# Altium integrated library Diodes - TVS.IntLib: 5379 symbols (part 83 of 122)
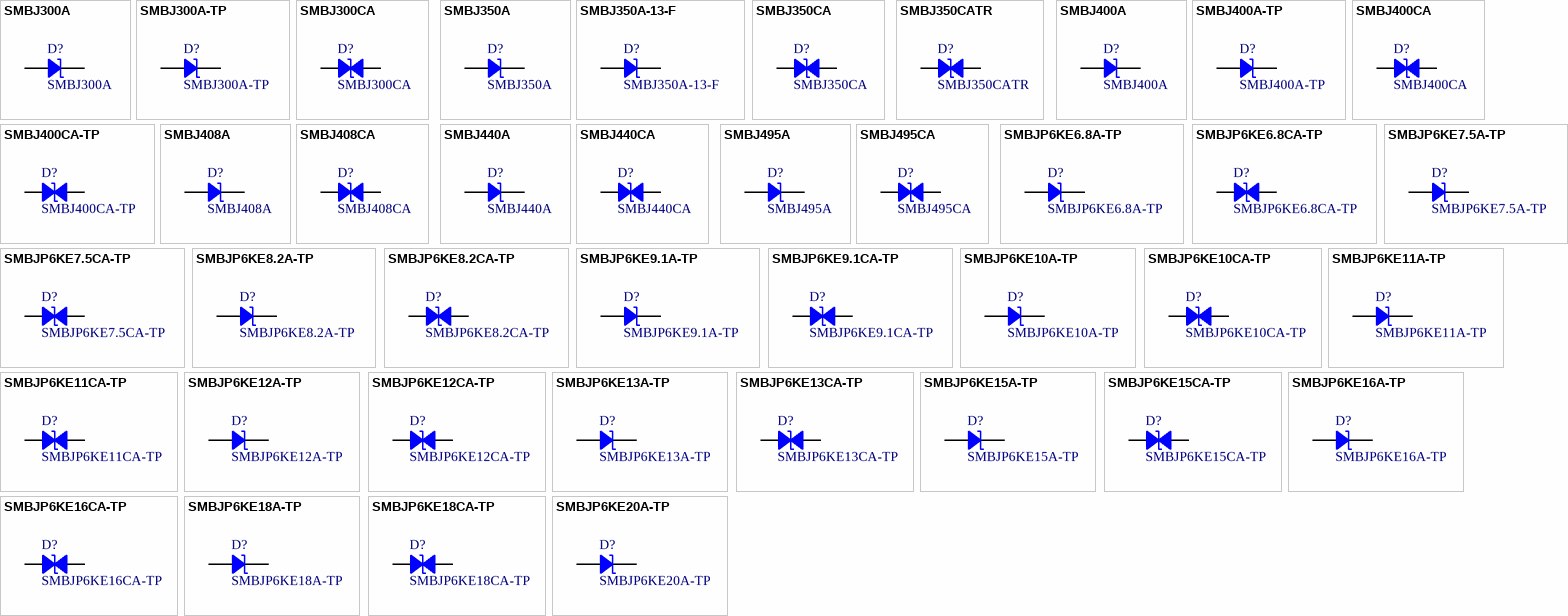
[diagram p216: symbols SMBJ300A to SMBJP6KE20A-TP]

## SMBJP6KE18CA-TP
designator D?
TVS DIODE 15.3V 25.5V DO214AA; Manufacturer: Micro Commercial Co; Bidirectional Channels: 1; Current - Peak Pulse (10/1000µs): 24.2A; Power Line Protection: No; Power - Peak Pulse: 600W; Type: Zener; Voltage - Breakdown (Min): 17.1V; Part Number: SMBJP6KE18CA-TP; Applications: General Purpose; ComponentLink1Description: Datasheet; ComponentLink1URL: https://www.mccsemi.com/pdf/Products/SMBJP6KE6.8(C)A-SMBJP6KE550(C)A(DO-214AA).pdf; ComponentLink2Description: DigiKey Link; ComponentLink2URL: http://digikey.com/product-detail/en/micro-commercial-co/SMBJP6KE18CA-TP/SMBJP6KE18CA-TPMSCT-ND/2345725; LastUpdated: 9/2/2020 1:28:17 AM; Lifecycle Status: Active; Minimum Order: 1; Mounting Type: Surface Mount; Operating Temperature: -55°C ~ 175°C (TJ); Package / Case: DO-214AA, SMB; Packaging: TapeAndReel; PartId: 9028; Part Status: Active; Price: 0.11; Series: SMBJ; Supplier 1: DigiKey; Supplier Part Number 1: SMBJP6KE18CA-TPMSCT-ND; Supplier Device Package: DO-214AA (SMBJ); Voltage - Clamping (Max) @ Ipp: 25.5V; Voltage - Reverse Standoff (Typ): 15.3V
footprint DO214AA SMB
pins: 1, 2

## SMBJP6KE20A-TP
designator D?
TVS DIODE 17.1V 27.7V DO214AA; Manufacturer: Micro Commercial Co; Current - Peak Pulse (10/1000µs): 22A; Power Line Protection: No; Power - Peak Pulse: 600W; Type: Zener; Unidirectional Channels: 1; Voltage - Breakdown (Min): 19V; Part Number: SMBJP6KE20A-TP; Applications: General Purpose; ComponentLink1Description: Datasheet; ComponentLink1URL: https://www.mccsemi.com/pdf/Products/SMBJP6KE6.8(C)A-SMBJP6KE550(C)A(DO-214AA).pdf; ComponentLink2Description: DigiKey Link; ComponentLink2URL: http://digikey.com/product-detail/en/micro-commercial-co/SMBJP6KE20A-TP/SMBJP6KE20A-TPMSDKR-ND/2345889; LastUpdated: 9/2/2020 1:19:50 AM; Lifecycle Status: Active; Minimum Order: 1; Mounting Type: Surface Mount; Operating Temperature: -55°C ~ 175°C (TJ); Package / Case: DO-214AA, SMB; PartId: 11270; Part Status: Active; Price: 0; Series: SMBJ; Supplier 1: DigiKey; Supplier Part Number 1: SMBJP6KE20A-TPMSDKR-ND; Supplier Device Package: DO-214AA (SMBJ); Voltage - Clamping (Max) @ Ipp: 27.7V; Voltage - Reverse Standoff (Typ): 17.1V
footprint DO214AA SMB
pins: 1, 2

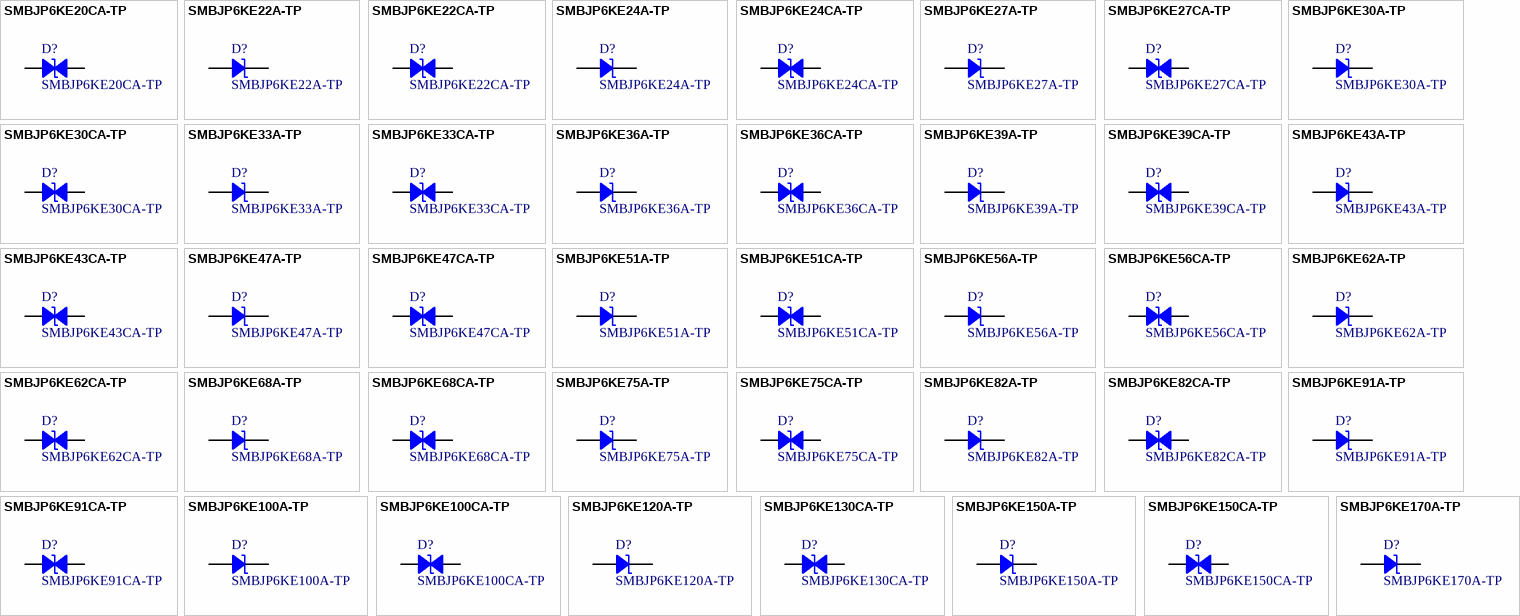
[diagram p91: symbols SMBJP6KE20CA-TP to SMBJP6KE170A-TP]

## SMBJP6KE20CA-TP
designator D?
TVS DIODE 17.1V 27.7V DO214AA; Manufacturer: Micro Commercial Co; Bidirectional Channels: 1; Current - Peak Pulse (10/1000µs): 22A; Power Line Protection: No; Power - Peak Pulse: 600W; Type: Zener; Voltage - Breakdown (Min): 19V; Part Number: SMBJP6KE20CA-TP; Applications: General Purpose; ComponentLink1Description: Datasheet; ComponentLink1URL: https://www.mccsemi.com/pdf/Products/SMBJP6KE6.8(C)A-SMBJP6KE550(C)A(DO-214AA).pdf; ComponentLink2Description: DigiKey Link; ComponentLink2URL: http://digikey.com/product-detail/en/micro-commercial-co/SMBJP6KE20CA-TP/SMBJP6KE20CA-TPMSCT-ND/2345729; LastUpdated: 9/2/2020 1:28:19 AM; Lifecycle Status: Active; Minimum Order: 1; Mounting Type: Surface Mount; Operating Temperature: -55°C ~ 175°C (TJ); Package / Case: DO-214AA, SMB; Packaging: TapeAndReel; PartId: 9335; Part Status: Active; Price: 0.11; Series: SMBJ; Supplier 1: DigiKey; Supplier Part Number 1: SMBJP6KE20CA-TPMSCT-ND; Supplier Device Package: DO-214AA (SMBJ); Voltage - Clamping (Max) @ Ipp: 27.7V; Voltage - Reverse Standoff (Typ): 17.1V
footprint DO214AA SMB
pins: 1, 2

## SMBJP6KE22A-TP
designator D?
TVS DIODE 18.8V 30.6V DO214AA; Manufacturer: Micro Commercial Co; Current - Peak Pulse (10/1000µs): 19.9A; Power Line Protection: No; Power - Peak Pulse: 600W; Type: Zener; Unidirectional Channels: 1; Voltage - Breakdown (Min): 20.9V; Part Number: SMBJP6KE22A-TP; Applications: General Purpose; ComponentLink1Description: Datasheet; ComponentLink1URL: https://www.mccsemi.com/pdf/Products/SMBJP6KE6.8(C)A-SMBJP6KE550(C)A(DO-214AA).pdf; ComponentLink2Description: DigiKey Link; ComponentLink2URL: http://digikey.com/product-detail/en/micro-commercial-co/SMBJP6KE22A-TP/SMBJP6KE22A-TPMSCT-ND/2345732; LastUpdated: 9/2/2020 1:19:44 AM; Lifecycle Status: Active; Minimum Order: 1; Mounting Type: Surface Mount; Operating Temperature: -55°C ~ 175°C (TJ); Package / Case: DO-214AA, SMB; Packaging: TapeAndReel; PartId: 10653; Part Status: Active; Price: 0.11; Series: SMBJ; Supplier 1: DigiKey; Supplier Part Number 1: SMBJP6KE22A-TPMSCT-ND; Supplier Device Package: DO-214AA (SMBJ); Voltage - Clamping (Max) @ Ipp: 30.6V; Voltage - Reverse Standoff (Typ): 18.8V
footprint DO214AA SMB
pins: 1, 2

## SMBJP6KE22CA-TP
designator D?
TVS DIODE 18.8V 30.6V DO214AA; Manufacturer: Micro Commercial Co; Bidirectional Channels: 1; Current - Peak Pulse (10/1000µs): 19.9A; Power Line Protection: No; Power - Peak Pulse: 600W; Type: Zener; Voltage - Breakdown (Min): 20.9V; Part Number: SMBJP6KE22CA-TP; Applications: General Purpose; ComponentLink1Description: Datasheet; ComponentLink1URL: https://www.mccsemi.com/pdf/Products/SMBJP6KE6.8(C)A-SMBJP6KE550(C)A(DO-214AA).pdf; ComponentLink2Description: DigiKey Link; ComponentLink2URL: http://digikey.com/product-detail/en/micro-commercial-co/SMBJP6KE22CA-TP/SMBJP6KE22CA-TPMSCT-ND/2345733; LastUpdated: 9/2/2020 1:28:16 AM; Lifecycle Status: Active; Minimum Order: 1; Mounting Type: Surface Mount; Operating Temperature: -55°C ~ 175°C (TJ); Package / Case: DO-214AA, SMB; Packaging: TapeAndReel; PartId: 8970; Part Status: Active; Price: 0.11; Series: SMBJ; Supplier 1: DigiKey; Supplier Part Number 1: SMBJP6KE22CA-TPMSCT-ND; Supplier Device Package: DO-214AA (SMBJ); Voltage - Clamping (Max) @ Ipp: 30.6V; Voltage - Reverse Standoff (Typ): 18.8V
footprint DO214AA SMB
pins: 1, 2

## SMBJP6KE24A-TP
designator D?
TVS DIODE 20.5V 33.2V DO214AA; Manufacturer: Micro Commercial Co; Current - Peak Pulse (10/1000µs): 18.4A; Power Line Protection: No; Power - Peak Pulse: 600W; Type: Zener; Unidirectional Channels: 1; Voltage - Breakdown (Min): 22.8V; Part Number: SMBJP6KE24A-TP; Applications: General Purpose; ComponentLink1Description: Datasheet; ComponentLink1URL: https://www.mccsemi.com/pdf/Products/SMBJP6KE6.8(C)A-SMBJP6KE550(C)A(DO-214AA).pdf; ComponentLink2Description: DigiKey Link; ComponentLink2URL: http://digikey.com/product-detail/en/micro-commercial-co/SMBJP6KE24A-TP/SMBJP6KE24A-TPMSCT-ND/2345734; LastUpdated: 9/2/2020 1:19:44 AM; Lifecycle Status: Active; Minimum Order: 1; Mounting Type: Surface Mount; Operating Temperature: -55°C ~ 175°C (TJ); Package / Case: DO-214AA, SMB; Packaging: TapeAndReel; PartId: 10652; Part Status: Active; Price: 0.11; Series: SMBJ; Supplier 1: DigiKey; Supplier Part Number 1: SMBJP6KE24A-TPMSCT-ND; Supplier Device Package: DO-214AA (SMBJ); Voltage - Clamping (Max) @ Ipp: 33.2V; Voltage - Reverse Standoff (Typ): 20.5V
footprint DO214AA SMB
pins: 1, 2

## SMBJP6KE24CA-TP
designator D?
TVS DIODE 20.5V 33.2V DO214AA; Manufacturer: Micro Commercial Co; Bidirectional Channels: 1; Current - Peak Pulse (10/1000µs): 18.4A; Power Line Protection: No; Power - Peak Pulse: 600W; Type: Zener; Voltage - Breakdown (Min): 22.8V; Part Number: SMBJP6KE24CA-TP; Applications: General Purpose; ComponentLink1Description: Datasheet; ComponentLink1URL: https://www.mccsemi.com/pdf/Products/SMBJP6KE6.8(C)A-SMBJP6KE550(C)A(DO-214AA).pdf; ComponentLink2Description: DigiKey Link; ComponentLink2URL: http://digikey.com/product-detail/en/micro-commercial-co/SMBJP6KE24CA-TP/SMBJP6KE24CA-TPMSCT-ND/2345735; LastUpdated: 9/2/2020 1:28:19 AM; Lifecycle Status: Active; Minimum Order: 1; Mounting Type: Surface Mount; Operating Temperature: -55°C ~ 175°C (TJ); Package / Case: DO-214AA, SMB; Packaging: TapeAndReel; PartId: 9334; Part Status: Active; Price: 0.11; Series: SMBJ; Supplier 1: DigiKey; Supplier Part Number 1: SMBJP6KE24CA-TPMSCT-ND; Supplier Device Package: DO-214AA (SMBJ); Voltage - Clamping (Max) @ Ipp: 33.2V; Voltage - Reverse Standoff (Typ): 20.5V
footprint DO214AA SMB
pins: 1, 2

## SMBJP6KE27A-TP
designator D?
TVS DIODE 23.1V 37.5V DO214AA; Manufacturer: Micro Commercial Co; Current - Peak Pulse (10/1000µs): 16.3A; Power Line Protection: No; Power - Peak Pulse: 600W; Type: Zener; Unidirectional Channels: 1; Voltage - Breakdown (Min): 25.7V; Part Number: SMBJP6KE27A-TP; Applications: General Purpose; ComponentLink1Description: Datasheet; ComponentLink1URL: https://www.mccsemi.com/pdf/Products/SMBJP6KE6.8(C)A-SMBJP6KE550(C)A(DO-214AA).pdf; ComponentLink2Description: DigiKey Link; ComponentLink2URL: http://digikey.com/product-detail/en/micro-commercial-co/SMBJP6KE27A-TP/SMBJP6KE27A-TPMSCT-ND/2345737; LastUpdated: 9/2/2020 1:19:51 AM; Lifecycle Status: Active; Minimum Order: 1; Mounting Type: Surface Mount; Operating Temperature: -55°C ~ 175°C (TJ); Package / Case: DO-214AA, SMB; Packaging: TapeAndReel; PartId: 11333; Part Status: Active; Price: 0.11; Series: SMBJ; Supplier 1: DigiKey; Supplier Part Number 1: SMBJP6KE27A-TPMSCT-ND; Supplier Device Package: DO-214AA (SMBJ); Voltage - Clamping (Max) @ Ipp: 37.5V; Voltage - Reverse Standoff (Typ): 23.1V
footprint DO214AA SMB
pins: 1, 2

## SMBJP6KE27CA-TP
designator D?
TVS DIODE 23.1V 37.5V DO214AA; Manufacturer: Micro Commercial Co; Bidirectional Channels: 1; Current - Peak Pulse (10/1000µs): 16.3A; Power Line Protection: No; Power - Peak Pulse: 600W; Type: Zener; Voltage - Breakdown (Min): 25.7V; Part Number: SMBJP6KE27CA-TP; Applications: General Purpose; ComponentLink1Description: Datasheet; ComponentLink1URL: https://www.mccsemi.com/pdf/Products/SMBJP6KE6.8(C)A-SMBJP6KE550(C)A(DO-214AA).pdf; ComponentLink2Description: DigiKey Link; ComponentLink2URL: http://digikey.com/product-detail/en/micro-commercial-co/SMBJP6KE27CA-TP/SMBJP6KE27CA-TPMSCT-ND/2345738; LastUpdated: 9/2/2020 1:28:16 AM; Lifecycle Status: Active; Minimum Order: 1; Mounting Type: Surface Mount; Operating Temperature: -55°C ~ 175°C (TJ); Package / Case: DO-214AA, SMB; Packaging: TapeAndReel; PartId: 8977; Part Status: Active; Price: 0.11; Series: SMBJ; Supplier 1: DigiKey; Supplier Part Number 1: SMBJP6KE27CA-TPMSCT-ND; Supplier Device Package: DO-214AA (SMBJ); Voltage - Clamping (Max) @ Ipp: 37.5V; Voltage - Reverse Standoff (Typ): 23.1V
footprint DO214AA SMB
pins: 1, 2

## SMBJP6KE30A-TP
designator D?
TVS DIODE 25.6V 41.4V DO214AA; Manufacturer: Micro Commercial Co; Current - Peak Pulse (10/1000µs): 14.7A; Power Line Protection: No; Power - Peak Pulse: 600W; Type: Zener; Unidirectional Channels: 1; Voltage - Breakdown (Min): 28.5V; Part Number: SMBJP6KE30A-TP; Applications: General Purpose; ComponentLink1Description: Datasheet; ComponentLink1URL: https://www.mccsemi.com/pdf/Products/SMBJP6KE6.8(C)A-SMBJP6KE550(C)A(DO-214AA).pdf; ComponentLink2Description: DigiKey Link; ComponentLink2URL: http://digikey.com/product-detail/en/micro-commercial-co/SMBJP6KE30A-TP/SMBJP6KE30A-TPMSCT-ND/2345740; LastUpdated: 9/2/2020 1:19:43 AM; Lifecycle Status: Active; Minimum Order: 1; Mounting Type: Surface Mount; Operating Temperature: -55°C ~ 175°C (TJ); Package / Case: DO-214AA, SMB; Packaging: TapeAndReel; PartId: 10547; Part Status: Active; Price: 0.11; Series: SMBJ; Supplier 1: DigiKey; Supplier Part Number 1: SMBJP6KE30A-TPMSCT-ND; Supplier Device Package: DO-214AA (SMBJ); Voltage - Clamping (Max) @ Ipp: 41.4V; Voltage - Reverse Standoff (Typ): 25.6V
footprint DO214AA SMB
pins: 1, 2

## SMBJP6KE30CA-TP
designator D?
TVS DIODE 25.6V 41.4V DO214AA; Manufacturer: Micro Commercial Co; Bidirectional Channels: 1; Current - Peak Pulse (10/1000µs): 14.7A; Power Line Protection: No; Power - Peak Pulse: 600W; Type: Zener; Voltage - Breakdown (Min): 28.5V; Part Number: SMBJP6KE30CA-TP; Applications: General Purpose; ComponentLink1Description: Datasheet; ComponentLink1URL: https://www.mccsemi.com/pdf/Products/SMBJP6KE6.8(C)A-SMBJP6KE550(C)A(DO-214AA).pdf; ComponentLink2Description: DigiKey Link; ComponentLink2URL: http://digikey.com/product-detail/en/micro-commercial-co/SMBJP6KE30CA-TP/SMBJP6KE30CA-TPMSCT-ND/2345741; LastUpdated: 9/2/2020 1:28:16 AM; Lifecycle Status: Active; Minimum Order: 1; Mounting Type: Surface Mount; Operating Temperature: -55°C ~ 175°C (TJ); Package / Case: DO-214AA, SMB; Packaging: TapeAndReel; PartId: 8974; Part Status: Active; Price: 0.11; Series: SMBJ; Supplier 1: DigiKey; Supplier Part Number 1: SMBJP6KE30CA-TPMSCT-ND; Supplier Device Package: DO-214AA (SMBJ); Voltage - Clamping (Max) @ Ipp: 41.4V; Voltage - Reverse Standoff (Typ): 25.6V
footprint DO214AA SMB
pins: 1, 2

## SMBJP6KE33A-TP
designator D?
TVS DIODE 28.2V 45.7V DO214AA; Manufacturer: Micro Commercial Co; Current - Peak Pulse (10/1000µs): 13.3A; Power Line Protection: No; Power - Peak Pulse: 600W; Type: Zener; Unidirectional Channels: 1; Voltage - Breakdown (Min): 31.4V; Part Number: SMBJP6KE33A-TP; Applications: General Purpose; ComponentLink1Description: Datasheet; ComponentLink1URL: https://www.mccsemi.com/pdf/Products/SMBJP6KE6.8(C)A-SMBJP6KE550(C)A(DO-214AA).pdf; ComponentLink2Description: DigiKey Link; ComponentLink2URL: http://digikey.com/product-detail/en/micro-commercial-co/SMBJP6KE33A-TP/SMBJP6KE33A-TPMSCT-ND/2345742; LastUpdated: 9/2/2020 1:19:43 AM; Lifecycle Status: Active; Minimum Order: 1; Mounting Type: Surface Mount; Operating Temperature: -55°C ~ 175°C (TJ); Package / Case: DO-214AA, SMB; Packaging: TapeAndReel; PartId: 10546; Part Status: Active; Price: 0.11; Series: SMBJ; Supplier 1: DigiKey; Supplier Part Number 1: SMBJP6KE33A-TPMSCT-ND; Supplier Device Package: DO-214AA (SMBJ); Voltage - Clamping (Max) @ Ipp: 45.7V; Voltage - Reverse Standoff (Typ): 28.2V
footprint DO214AA SMB
pins: 1, 2

## SMBJP6KE33CA-TP
designator D?
TVS DIODE 28.2V 45.7V DO214AA; Manufacturer: Micro Commercial Co; Bidirectional Channels: 1; Current - Peak Pulse (10/1000µs): 13.3A; Power Line Protection: No; Power - Peak Pulse: 600W; Type: Zener; Voltage - Breakdown (Min): 31.4V; Part Number: SMBJP6KE33CA-TP; Applications: General Purpose; ComponentLink1Description: Datasheet; ComponentLink1URL: https://www.mccsemi.com/pdf/Products/SMBJP6KE6.8(C)A-SMBJP6KE550(C)A(DO-214AA).pdf; ComponentLink2Description: DigiKey Link; ComponentLink2URL: http://digikey.com/product-detail/en/micro-commercial-co/SMBJP6KE33CA-TP/SMBJP6KE33CA-TPMSCT-ND/2345743; LastUpdated: 9/2/2020 1:28:15 AM; Lifecycle Status: Active; Minimum Order: 1; Mounting Type: Surface Mount; Operating Temperature: -55°C ~ 175°C (TJ); Package / Case: DO-214AA, SMB; Packaging: TapeAndReel; PartId: 8875; Part Status: Active; Price: 0.11; Series: SMBJ; Supplier 1: DigiKey; Supplier Part Number 1: SMBJP6KE33CA-TPMSCT-ND; Supplier Device Package: DO-214AA (SMBJ); Voltage - Clamping (Max) @ Ipp: 45.7V; Voltage - Reverse Standoff (Typ): 28.2V
footprint DO214AA SMB
pins: 1, 2

## SMBJP6KE36A-TP
designator D?
TVS DIODE 30.8V 49.9V DO214AA; Manufacturer: Micro Commercial Co; Current - Peak Pulse (10/1000µs): 12.2A; Power Line Protection: No; Power - Peak Pulse: 600W; Type: Zener; Unidirectional Channels: 1; Voltage - Breakdown (Min): 34.2V; Part Number: SMBJP6KE36A-TP; Applications: General Purpose; ComponentLink1Description: Datasheet; ComponentLink1URL: https://www.mccsemi.com/pdf/Products/SMBJP6KE6.8(C)A-SMBJP6KE550(C)A(DO-214AA).pdf; ComponentLink2Description: DigiKey Link; ComponentLink2URL: http://digikey.com/product-detail/en/micro-commercial-co/SMBJP6KE36A-TP/SMBJP6KE36A-TPMSCT-ND/2345746; LastUpdated: 9/2/2020 1:19:51 AM; Lifecycle Status: Active; Minimum Order: 1; Mounting Type: Surface Mount; Operating Temperature: -55°C ~ 175°C (TJ); Package / Case: DO-214AA, SMB; Packaging: TapeAndReel; PartId: 11332; Part Status: Active; Price: 0.11; Series: SMBJ; Supplier 1: DigiKey; Supplier Part Number 1: SMBJP6KE36A-TPMSCT-ND; Supplier Device Package: DO-214AA (SMBJ); Voltage - Clamping (Max) @ Ipp: 49.9V; Voltage - Reverse Standoff (Typ): 30.8V
footprint DO214AA SMB
pins: 1, 2

## SMBJP6KE36CA-TP
designator D?
TVS DIODE 30.8V 49.9V DO214AA; Manufacturer: Micro Commercial Co; Bidirectional Channels: 1; Current - Peak Pulse (10/1000µs): 12.2A; Power Line Protection: No; Power - Peak Pulse: 600W; Type: Zener; Voltage - Breakdown (Min): 34.2V; Part Number: SMBJP6KE36CA-TP; Applications: General Purpose; ComponentLink1Description: Datasheet; ComponentLink1URL: https://www.mccsemi.com/pdf/Products/SMBJP6KE6.8(C)A-SMBJP6KE550(C)A(DO-214AA).pdf; ComponentLink2Description: DigiKey Link; ComponentLink2URL: http://digikey.com/product-detail/en/micro-commercial-co/SMBJP6KE36CA-TP/SMBJP6KE36CA-TPMSCT-ND/2345747; LastUpdated: 9/2/2020 1:28:16 AM; Lifecycle Status: Active; Minimum Order: 1; Mounting Type: Surface Mount; Operating Temperature: -55°C ~ 175°C (TJ); Package / Case: DO-214AA, SMB; Packaging: TapeAndReel; PartId: 8976; Part Status: Active; Price: 0.11; Series: SMBJ; Supplier 1: DigiKey; Supplier Part Number 1: SMBJP6KE36CA-TPMSCT-ND; Supplier Device Package: DO-214AA (SMBJ); Voltage - Clamping (Max) @ Ipp: 49.9V; Voltage - Reverse Standoff (Typ): 30.8V
footprint DO214AA SMB
pins: 1, 2

## SMBJP6KE39A-TP
designator D?
TVS DIODE 33.3V 53.9V DO214AA; Manufacturer: Micro Commercial Co; Current - Peak Pulse (10/1000µs): 11.3A; Power Line Protection: No; Power - Peak Pulse: 600W; Type: Zener; Unidirectional Channels: 1; Voltage - Breakdown (Min): 37.1V; Part Number: SMBJP6KE39A-TP; Applications: General Purpose; ComponentLink1Description: Datasheet; ComponentLink1URL: https://www.mccsemi.com/pdf/Products/SMBJP6KE6.8(C)A-SMBJP6KE550(C)A(DO-214AA).pdf; ComponentLink2Description: DigiKey Link; ComponentLink2URL: http://digikey.com/product-detail/en/micro-commercial-co/SMBJP6KE39A-TP/SMBJP6KE39A-TPMSCT-ND/2345748; LastUpdated: 9/2/2020 1:19:48 AM; Lifecycle Status: Active; Minimum Order: 1; Mounting Type: Surface Mount; Operating Temperature: -55°C ~ 175°C (TJ); Package / Case: DO-214AA, SMB; Packaging: TapeAndReel; PartId: 11013; Part Status: Active; Price: 0.11; Series: SMBJ; Supplier 1: DigiKey; Supplier Part Number 1: SMBJP6KE39A-TPMSCT-ND; Supplier Device Package: DO-214AA (SMBJ); Voltage - Clamping (Max) @ Ipp: 53.9V; Voltage - Reverse Standoff (Typ): 33.3V
footprint DO214AA SMB
pins: 1, 2

## SMBJP6KE39CA-TP
designator D?
TVS DIODE 33.3V 53.9V DO214AA; Manufacturer: Micro Commercial Co; Bidirectional Channels: 1; Current - Peak Pulse (10/1000µs): 11.3A; Power Line Protection: No; Power - Peak Pulse: 600W; Type: Zener; Voltage - Breakdown (Min): 37.1V; Part Number: SMBJP6KE39CA-TP; Applications: General Purpose; ComponentLink1Description: Datasheet; ComponentLink1URL: https://www.mccsemi.com/pdf/Products/SMBJP6KE6.8(C)A-SMBJP6KE550(C)A(DO-214AA).pdf; ComponentLink2Description: DigiKey Link; ComponentLink2URL: http://digikey.com/product-detail/en/micro-commercial-co/SMBJP6KE39CA-TP/SMBJP6KE39CA-TPMSCT-ND/2345749; LastUpdated: 9/2/2020 1:28:15 AM; Lifecycle Status: Active; Minimum Order: 1; Mounting Type: Surface Mount; Operating Temperature: -55°C ~ 175°C (TJ); Package / Case: DO-214AA, SMB; Packaging: TapeAndReel; PartId: 8859; Part Status: Active; Price: 0.11; Series: SMBJ; Supplier 1: DigiKey; Supplier Part Number 1: SMBJP6KE39CA-TPMSCT-ND; Supplier Device Package: DO-214AA (SMBJ); Voltage - Clamping (Max) @ Ipp: 53.9V; Voltage - Reverse Standoff (Typ): 33.3V
footprint DO214AA SMB
pins: 1, 2

## SMBJP6KE43A-TP
designator D?
TVS DIODE 36.8V 59.3V DO214AA; Manufacturer: Micro Commercial Co; Current - Peak Pulse (10/1000µs): 10.3A; Power Line Protection: No; Power - Peak Pulse: 600W; Type: Zener; Unidirectional Channels: 1; Voltage - Breakdown (Min): 40.9V; Part Number: SMBJP6KE43A-TP; Applications: General Purpose; ComponentLink1Description: Datasheet; ComponentLink1URL: https://www.mccsemi.com/pdf/Products/SMBJP6KE6.8(C)A-SMBJP6KE550(C)A(DO-214AA).pdf; ComponentLink2Description: DigiKey Link; ComponentLink2URL: http://digikey.com/product-detail/en/micro-commercial-co/SMBJP6KE43A-TP/SMBJP6KE43A-TPMSCT-ND/2345752; LastUpdated: 9/2/2020 1:19:44 AM; Lifecycle Status: Active; Minimum Order: 1; Mounting Type: Surface Mount; Operating Temperature: -55°C ~ 175°C (TJ); Package / Case: DO-214AA, SMB; Packaging: TapeAndReel; PartId: 10687; Part Status: Active; Price: 0.11; Series: SMBJ; Supplier 1: DigiKey; Supplier Part Number 1: SMBJP6KE43A-TPMSCT-ND; Supplier Device Package: DO-214AA (SMBJ); Voltage - Clamping (Max) @ Ipp: 59.3V; Voltage - Reverse Standoff (Typ): 36.8V
footprint DO214AA SMB
pins: 1, 2

## SMBJP6KE43CA-TP
designator D?
TVS DIODE 36.8V 59.3V DO214AA; Manufacturer: Micro Commercial Co; Bidirectional Channels: 1; Current - Peak Pulse (10/1000µs): 10.3A; Power Line Protection: No; Power - Peak Pulse: 600W; Type: Zener; Voltage - Breakdown (Min): 40.9V; Part Number: SMBJP6KE43CA-TP; Applications: General Purpose; ComponentLink1Description: Datasheet; ComponentLink1URL: https://www.mccsemi.com/pdf/Products/SMBJP6KE6.8(C)A-SMBJP6KE550(C)A(DO-214AA).pdf; ComponentLink2Description: DigiKey Link; ComponentLink2URL: http://digikey.com/product-detail/en/micro-commercial-co/SMBJP6KE43CA-TP/SMBJP6KE43CA-TPMSCT-ND/2345753; LastUpdated: 9/2/2020 1:28:16 AM; Lifecycle Status: Active; Minimum Order: 1; Mounting Type: Surface Mount; Operating Temperature: -55°C ~ 175°C (TJ); Package / Case: DO-214AA, SMB; Packaging: TapeAndReel; PartId: 8979; Part Status: Active; Price: 0.11; Series: SMBJ; Supplier 1: DigiKey; Supplier Part Number 1: SMBJP6KE43CA-TPMSCT-ND; Supplier Device Package: DO-214AA (SMBJ); Voltage - Clamping (Max) @ Ipp: 59.3V; Voltage - Reverse Standoff (Typ): 36.8V
footprint DO214AA SMB
pins: 1, 2

## SMBJP6KE47A-TP
designator D?
TVS DIODE 40.2V 64.8V DO214AA; Manufacturer: Micro Commercial Co; Current - Peak Pulse (10/1000µs): 9.4A; Power Line Protection: No; Power - Peak Pulse: 600W; Type: Zener; Unidirectional Channels: 1; Voltage - Breakdown (Min): 44.7V; Part Number: SMBJP6KE47A-TP; Applications: General Purpose; ComponentLink1Description: Datasheet; ComponentLink1URL: https://www.mccsemi.com/pdf/Products/SMBJP6KE6.8(C)A-SMBJP6KE550(C)A(DO-214AA).pdf; ComponentLink2Description: DigiKey Link; ComponentLink2URL: http://digikey.com/product-detail/en/micro-commercial-co/SMBJP6KE47A-TP/SMBJP6KE47A-TPMSCT-ND/2345755; LastUpdated: 9/2/2020 1:19:48 AM; Lifecycle Status: Active; Minimum Order: 1; Mounting Type: Surface Mount; Operating Temperature: -55°C ~ 175°C (TJ); Package / Case: DO-214AA, SMB; Packaging: TapeAndReel; PartId: 11012; Part Status: Active; Price: 0.11; Series: SMBJ; Supplier 1: DigiKey; Supplier Part Number 1: SMBJP6KE47A-TPMSCT-ND; Supplier Device Package: DO-214AA (SMBJ); Voltage - Clamping (Max) @ Ipp: 64.8V; Voltage - Reverse Standoff (Typ): 40.2V
footprint DO214AA SMB
pins: 1, 2

## SMBJP6KE47CA-TP
designator D?
TVS DIODE 40.2V 64.8V DO214AA; Manufacturer: Micro Commercial Co; Bidirectional Channels: 1; Current - Peak Pulse (10/1000µs): 9.4A; Power Line Protection: No; Power - Peak Pulse: 600W; Type: Zener; Voltage - Breakdown (Min): 44.7V; Part Number: SMBJP6KE47CA-TP; Applications: General Purpose; ComponentLink1Description: Datasheet; ComponentLink1URL: https://www.mccsemi.com/pdf/Products/SMBJP6KE6.8(C)A-SMBJP6KE550(C)A(DO-214AA).pdf; ComponentLink2Description: DigiKey Link; ComponentLink2URL: http://digikey.com/product-detail/en/micro-commercial-co/SMBJP6KE47CA-TP/SMBJP6KE47CA-TPMSCT-ND/2345756; LastUpdated: 9/2/2020 1:28:15 AM; Lifecycle Status: Active; Minimum Order: 1; Mounting Type: Surface Mount; Operating Temperature: -55°C ~ 175°C (TJ); Package / Case: DO-214AA, SMB; Packaging: TapeAndReel; PartId: 8846; Part Status: Active; Price: 0.11; Series: SMBJ; Supplier 1: DigiKey; Supplier Part Number 1: SMBJP6KE47CA-TPMSCT-ND; Supplier Device Package: DO-214AA (SMBJ); Voltage - Clamping (Max) @ Ipp: 64.8V; Voltage - Reverse Standoff (Typ): 40.2V
footprint DO214AA SMB
pins: 1, 2

## SMBJP6KE51A-TP
designator D?
TVS DIODE 43.6V 70.1V DO214AA; Manufacturer: Micro Commercial Co; Current - Peak Pulse (10/1000µs): 8.7A; Power Line Protection: No; Power - Peak Pulse: 600W; Type: Zener; Unidirectional Channels: 1; Voltage - Breakdown (Min): 48.5V; Part Number: SMBJP6KE51A-TP; Applications: General Purpose; ComponentLink1Description: Datasheet; ComponentLink1URL: https://www.mccsemi.com/pdf/Products/SMBJP6KE6.8(C)A-SMBJP6KE550(C)A(DO-214AA).pdf; ComponentLink2Description: DigiKey Link; ComponentLink2URL: http://digikey.com/product-detail/en/micro-commercial-co/SMBJP6KE51A-TP/SMBJP6KE51A-TPMSCT-ND/2345759; LastUpdated: 9/2/2020 1:19:44 AM; Lifecycle Status: Active; Minimum Order: 1; Mounting Type: Surface Mount; Operating Temperature: -55°C ~ 175°C (TJ); Package / Case: DO-214AA, SMB; Packaging: TapeAndReel; PartId: 10651; Part Status: Active; Price: 0.11; Series: SMBJ; Supplier 1: DigiKey; Supplier Part Number 1: SMBJP6KE51A-TPMSCT-ND; Supplier Device Package: DO-214AA (SMBJ); Voltage - Clamping (Max) @ Ipp: 70.1V; Voltage - Reverse Standoff (Typ): 43.6V
footprint DO214AA SMB
pins: 1, 2

## SMBJP6KE51CA-TP
designator D?
TVS DIODE 43.6V 70.1V DO214AA; Manufacturer: Micro Commercial Co; Bidirectional Channels: 1; Current - Peak Pulse (10/1000µs): 8.7A; Power Line Protection: No; Power - Peak Pulse: 600W; Type: Zener; Voltage - Breakdown (Min): 48.5V; Part Number: SMBJP6KE51CA-TP; Applications: General Purpose; ComponentLink1Description: Datasheet; ComponentLink1URL: https://www.mccsemi.com/pdf/Products/SMBJP6KE6.8(C)A-SMBJP6KE550(C)A(DO-214AA).pdf; ComponentLink2Description: DigiKey Link; ComponentLink2URL: http://digikey.com/product-detail/en/micro-commercial-co/SMBJP6KE51CA-TP/SMBJP6KE51CA-TPMSCT-ND/2345760; LastUpdated: 9/2/2020 1:28:22 AM; Lifecycle Status: Active; Minimum Order: 1; Mounting Type: Surface Mount; Operating Temperature: -55°C ~ 175°C (TJ); Package / Case: DO-214AA, SMB; Packaging: TapeAndReel; PartId: 9620; Part Status: Active; Price: 0.11; Series: SMBJ; Supplier 1: DigiKey; Supplier Part Number 1: SMBJP6KE51CA-TPMSCT-ND; Supplier Device Package: DO-214AA (SMBJ); Voltage - Clamping (Max) @ Ipp: 70.1V; Voltage - Reverse Standoff (Typ): 43.6V
footprint DO214AA SMB
pins: 1, 2

## SMBJP6KE56A-TP
designator D?
TVS DIODE 47.8V 77V DO214AA; Manufacturer: Micro Commercial Co; Current - Peak Pulse (10/1000µs): 7.9A; Power Line Protection: No; Power - Peak Pulse: 600W; Type: Zener; Unidirectional Channels: 1; Voltage - Breakdown (Min): 53.2V; Part Number: SMBJP6KE56A-TP; Applications: General Purpose; ComponentLink1Description: Datasheet; ComponentLink1URL: https://www.mccsemi.com/pdf/Products/SMBJP6KE6.8(C)A-SMBJP6KE550(C)A(DO-214AA).pdf; ComponentLink2Description: DigiKey Link; ComponentLink2URL: http://digikey.com/product-detail/en/micro-commercial-co/SMBJP6KE56A-TP/SMBJP6KE56A-TPMSCT-ND/2345762; LastUpdated: 9/2/2020 1:19:43 AM; Lifecycle Status: Active; Minimum Order: 1; Mounting Type: Surface Mount; Operating Temperature: -55°C ~ 175°C (TJ); Package / Case: DO-214AA, SMB; Packaging: TapeAndReel; PartId: 10545; Part Status: Active; Price: 0.11; Series: SMBJ; Supplier 1: DigiKey; Supplier Part Number 1: SMBJP6KE56A-TPMSCT-ND; Supplier Device Package: DO-214AA (SMBJ); Voltage - Clamping (Max) @ Ipp: 77V; Voltage - Reverse Standoff (Typ): 47.8V
footprint DO214AA SMB
pins: 1, 2

## SMBJP6KE56CA-TP
designator D?
TVS DIODE 47.8V 77V DO214AA; Manufacturer: Micro Commercial Co; Bidirectional Channels: 1; Current - Peak Pulse (10/1000µs): 7.9A; Power Line Protection: No; Power - Peak Pulse: 600W; Type: Zener; Voltage - Breakdown (Min): 53.2V; Part Number: SMBJP6KE56CA-TP; Applications: General Purpose; ComponentLink1Description: Datasheet; ComponentLink1URL: https://www.mccsemi.com/pdf/Products/SMBJP6KE6.8(C)A-SMBJP6KE550(C)A(DO-214AA).pdf; ComponentLink2Description: DigiKey Link; ComponentLink2URL: http://digikey.com/product-detail/en/micro-commercial-co/SMBJP6KE56CA-TP/SMBJP6KE56CA-TPMSCT-ND/2345763; LastUpdated: 9/2/2020 1:28:16 AM; Lifecycle Status: Active; Minimum Order: 1; Mounting Type: Surface Mount; Operating Temperature: -55°C ~ 175°C (TJ); Package / Case: DO-214AA, SMB; Packaging: TapeAndReel; PartId: 8971; Part Status: Active; Price: 0.11; Series: SMBJ; Supplier 1: DigiKey; Supplier Part Number 1: SMBJP6KE56CA-TPMSCT-ND; Supplier Device Package: DO-214AA (SMBJ); Voltage - Clamping (Max) @ Ipp: 77V; Voltage - Reverse Standoff (Typ): 47.8V
footprint DO214AA SMB
pins: 1, 2

## SMBJP6KE62A-TP
designator D?
TVS DIODE 53V 85V DO214AA; Manufacturer: Micro Commercial Co; Current - Peak Pulse (10/1000µs): 7.2A; Power Line Protection: No; Power - Peak Pulse: 600W; Type: Zener; Unidirectional Channels: 1; Voltage - Breakdown (Min): 58.9V; Part Number: SMBJP6KE62A-TP; Applications: General Purpose; ComponentLink1Description: Datasheet; ComponentLink1URL: https://www.mccsemi.com/pdf/Products/SMBJP6KE6.8(C)A-SMBJP6KE550(C)A(DO-214AA).pdf; ComponentLink2Description: DigiKey Link; ComponentLink2URL: http://digikey.com/product-detail/en/micro-commercial-co/SMBJP6KE62A-TP/SMBJP6KE62A-TPMSCT-ND/2345764; LastUpdated: 9/2/2020 1:19:48 AM; Lifecycle Status: Active; Minimum Order: 1; Mounting Type: Surface Mount; Operating Temperature: -55°C ~ 175°C (TJ); Package / Case: DO-214AA, SMB; Packaging: TapeAndReel; PartId: 11015; Part Status: Active; Price: 0.11; Series: SMBJ; Supplier 1: DigiKey; Supplier Part Number 1: SMBJP6KE62A-TPMSCT-ND; Supplier Device Package: DO-214AA (SMBJ); Voltage - Clamping (Max) @ Ipp: 85V; Voltage - Reverse Standoff (Typ): 53V
footprint DO214AA SMB
pins: 1, 2

## SMBJP6KE62CA-TP
designator D?
TVS DIODE 53V 85V DO214AA; Manufacturer: Micro Commercial Co; Bidirectional Channels: 1; Current - Peak Pulse (10/1000µs): 7.2A; Power Line Protection: No; Power - Peak Pulse: 600W; Type: Zener; Voltage - Breakdown (Min): 58.9V; Part Number: SMBJP6KE62CA-TP; Applications: General Purpose; ComponentLink1Description: Datasheet; ComponentLink1URL: https://www.mccsemi.com/pdf/Products/SMBJP6KE6.8(C)A-SMBJP6KE550(C)A(DO-214AA).pdf; ComponentLink2Description: DigiKey Link; ComponentLink2URL: http://digikey.com/product-detail/en/micro-commercial-co/SMBJP6KE62CA-TP/SMBJP6KE62CA-TPMSCT-ND/2345765; LastUpdated: 9/2/2020 1:28:15 AM; Lifecycle Status: Active; Minimum Order: 1; Mounting Type: Surface Mount; Operating Temperature: -55°C ~ 175°C (TJ); Package / Case: DO-214AA, SMB; Packaging: TapeAndReel; PartId: 8847; Part Status: Active; Price: 0.11; Series: SMBJ; Supplier 1: DigiKey; Supplier Part Number 1: SMBJP6KE62CA-TPMSCT-ND; Supplier Device Package: DO-214AA (SMBJ); Voltage - Clamping (Max) @ Ipp: 85V; Voltage - Reverse Standoff (Typ): 53V
footprint DO214AA SMB
pins: 1, 2

## SMBJP6KE68A-TP
designator D?
TVS DIODE 58.1V 92V DO214AA; Manufacturer: Micro Commercial Co; Current - Peak Pulse (10/1000µs): 6.6A; Power Line Protection: No; Power - Peak Pulse: 600W; Type: Zener; Unidirectional Channels: 1; Voltage - Breakdown (Min): 64.6V; Part Number: SMBJP6KE68A-TP; Applications: General Purpose; ComponentLink1Description: Datasheet; ComponentLink1URL: https://www.mccsemi.com/pdf/Products/SMBJP6KE6.8(C)A-SMBJP6KE550(C)A(DO-214AA).pdf; ComponentLink2Description: DigiKey Link; ComponentLink2URL: http://digikey.com/product-detail/en/micro-commercial-co/SMBJP6KE68A-TP/SMBJP6KE68A-TPMSCT-ND/2345766; LastUpdated: 9/2/2020 1:19:44 AM; Lifecycle Status: Active; Minimum Order: 1; Mounting Type: Surface Mount; Operating Temperature: -55°C ~ 175°C (TJ); Package / Case: DO-214AA, SMB; Packaging: TapeAndReel; PartId: 10688; Part Status: Active; Price: 0.11; Series: SMBJ; Supplier 1: DigiKey; Supplier Part Number 1: SMBJP6KE68A-TPMSCT-ND; Supplier Device Package: DO-214AA (SMBJ); Voltage - Clamping (Max) @ Ipp: 92V; Voltage - Reverse Standoff (Typ): 58.1V
footprint DO214AA SMB
pins: 1, 2

## SMBJP6KE68CA-TP
designator D?
TVS DIODE 58.1V 92V DO214AA; Manufacturer: Micro Commercial Co; Bidirectional Channels: 1; Current - Peak Pulse (10/1000µs): 6.6A; Power Line Protection: No; Power - Peak Pulse: 600W; Type: Zener; Voltage - Breakdown (Min): 64.6V; Part Number: SMBJP6KE68CA-TP; Applications: General Purpose; ComponentLink1Description: Datasheet; ComponentLink1URL: https://www.mccsemi.com/pdf/Products/SMBJP6KE6.8(C)A-SMBJP6KE550(C)A(DO-214AA).pdf; ComponentLink2Description: DigiKey Link; ComponentLink2URL: http://digikey.com/product-detail/en/micro-commercial-co/SMBJP6KE68CA-TP/SMBJP6KE68CA-TPMSCT-ND/2345767; LastUpdated: 9/2/2020 1:28:16 AM; Lifecycle Status: Active; Minimum Order: 1; Mounting Type: Surface Mount; Operating Temperature: -55°C ~ 175°C (TJ); Package / Case: DO-214AA, SMB; Packaging: TapeAndReel; PartId: 8980; Part Status: Active; Price: 0.11; Series: SMBJ; Supplier 1: DigiKey; Supplier Part Number 1: SMBJP6KE68CA-TPMSCT-ND; Supplier Device Package: DO-214AA (SMBJ); Voltage - Clamping (Max) @ Ipp: 92V; Voltage - Reverse Standoff (Typ): 58.1V
footprint DO214AA SMB
pins: 1, 2

## SMBJP6KE75A-TP
designator D?
TVS DIODE 64.1V 103V DO214AA; Manufacturer: Micro Commercial Co; Current - Peak Pulse (10/1000µs): 5.9A; Power Line Protection: No; Power - Peak Pulse: 600W; Type: Zener; Unidirectional Channels: 1; Voltage - Breakdown (Min): 71.3V; Part Number: SMBJP6KE75A-TP; Applications: General Purpose; ComponentLink1Description: Datasheet; ComponentLink1URL: https://www.mccsemi.com/pdf/Products/SMBJP6KE6.8(C)A-SMBJP6KE550(C)A(DO-214AA).pdf; ComponentLink2Description: DigiKey Link; ComponentLink2URL: http://digikey.com/product-detail/en/micro-commercial-co/SMBJP6KE75A-TP/SMBJP6KE75A-TPMSCT-ND/2345770; LastUpdated: 9/2/2020 1:19:43 AM; Lifecycle Status: Active; Minimum Order: 1; Mounting Type: Surface Mount; Operating Temperature: -55°C ~ 175°C (TJ); Package / Case: DO-214AA, SMB; Packaging: TapeAndReel; PartId: 10544; Part Status: Active; Price: 0.11; Series: SMBJ; Supplier 1: DigiKey; Supplier Part Number 1: SMBJP6KE75A-TPMSCT-ND; Supplier Device Package: DO-214AA (SMBJ); Voltage - Clamping (Max) @ Ipp: 103V; Voltage - Reverse Standoff (Typ): 64.1V
footprint DO214AA SMB
pins: 1, 2

## SMBJP6KE75CA-TP
designator D?
TVS DIODE 64.1V 103V DO214AA; Manufacturer: Micro Commercial Co; Bidirectional Channels: 1; Current - Peak Pulse (10/1000µs): 5.9A; Power Line Protection: No; Power - Peak Pulse: 600W; Type: Zener; Voltage - Breakdown (Min): 71.3V; Part Number: SMBJP6KE75CA-TP; Applications: General Purpose; ComponentLink1Description: Datasheet; ComponentLink1URL: https://www.mccsemi.com/pdf/Products/SMBJP6KE6.8(C)A-SMBJP6KE550(C)A(DO-214AA).pdf; ComponentLink2Description: DigiKey Link; ComponentLink2URL: http://digikey.com/product-detail/en/micro-commercial-co/SMBJP6KE75CA-TP/SMBJP6KE75CA-TPMSCT-ND/2345771; LastUpdated: 9/2/2020 1:28:15 AM; Lifecycle Status: Active; Minimum Order: 1; Mounting Type: Surface Mount; Operating Temperature: -55°C ~ 175°C (TJ); Package / Case: DO-214AA, SMB; Packaging: TapeAndReel; PartId: 8845; Part Status: Active; Price: 0.11; Series: SMBJ; Supplier 1: DigiKey; Supplier Part Number 1: SMBJP6KE75CA-TPMSCT-ND; Supplier Device Package: DO-214AA (SMBJ); Voltage - Clamping (Max) @ Ipp: 103V; Voltage - Reverse Standoff (Typ): 64.1V
footprint DO214AA SMB
pins: 1, 2

## SMBJP6KE82A-TP
designator D?
TVS DIODE 70.1V 113V DO214AA; Manufacturer: Micro Commercial Co; Current - Peak Pulse (10/1000µs): 5.4A; Power Line Protection: No; Power - Peak Pulse: 600W; Type: Zener; Unidirectional Channels: 1; Voltage - Breakdown (Min): 77.9V; Part Number: SMBJP6KE82A-TP; Applications: General Purpose; ComponentLink1Description: Datasheet; ComponentLink1URL: https://www.mccsemi.com/pdf/Products/SMBJP6KE6.8(C)A-SMBJP6KE550(C)A(DO-214AA).pdf; ComponentLink2Description: DigiKey Link; ComponentLink2URL: http://digikey.com/product-detail/en/micro-commercial-co/SMBJP6KE82A-TP/SMBJP6KE82A-TPMSCT-ND/2345774; LastUpdated: 9/2/2020 1:19:48 AM; Lifecycle Status: Active; Minimum Order: 1; Mounting Type: Surface Mount; Operating Temperature: -55°C ~ 175°C (TJ); Package / Case: DO-214AA, SMB; Packaging: TapeAndReel; PartId: 10982; Part Status: Active; Price: 0.11; Series: SMBJ; Supplier 1: DigiKey; Supplier Part Number 1: SMBJP6KE82A-TPMSCT-ND; Supplier Device Package: DO-214AA (SMBJ); Voltage - Clamping (Max) @ Ipp: 113V; Voltage - Reverse Standoff (Typ): 70.1V
footprint DO214AA SMB
pins: 1, 2

## SMBJP6KE82CA-TP
designator D?
TVS DIODE 70.1V 113V DO214AA; Manufacturer: Micro Commercial Co; Bidirectional Channels: 1; Current - Peak Pulse (10/1000µs): 5.4A; Power Line Protection: No; Power - Peak Pulse: 600W; Type: Zener; Voltage - Breakdown (Min): 77.9V; Part Number: SMBJP6KE82CA-TP; Applications: General Purpose; ComponentLink1Description: Datasheet; ComponentLink1URL: https://www.mccsemi.com/pdf/Products/SMBJP6KE6.8(C)A-SMBJP6KE550(C)A(DO-214AA).pdf; ComponentLink2Description: DigiKey Link; ComponentLink2URL: http://digikey.com/product-detail/en/micro-commercial-co/SMBJP6KE82CA-TP/SMBJP6KE82CA-TPMSCT-ND/2345775; LastUpdated: 9/2/2020 1:28:20 AM; Lifecycle Status: Active; Minimum Order: 1; Mounting Type: Surface Mount; Operating Temperature: -55°C ~ 175°C (TJ); Package / Case: DO-214AA, SMB; Packaging: TapeAndReel; PartId: 9338; Part Status: Active; Price: 0.11; Series: SMBJ; Supplier 1: DigiKey; Supplier Part Number 1: SMBJP6KE82CA-TPMSCT-ND; Supplier Device Package: DO-214AA (SMBJ); Voltage - Clamping (Max) @ Ipp: 113V; Voltage - Reverse Standoff (Typ): 70.1V
footprint DO214AA SMB
pins: 1, 2

## SMBJP6KE91A-TP
designator D?
TVS DIODE 77.8V 125V DO214AA; Manufacturer: Micro Commercial Co; Current - Peak Pulse (10/1000µs): 4.9A; Power Line Protection: No; Power - Peak Pulse: 600W; Type: Zener; Unidirectional Channels: 1; Voltage - Breakdown (Min): 86.5V; Part Number: SMBJP6KE91A-TP; Applications: General Purpose; ComponentLink1Description: Datasheet; ComponentLink1URL: https://www.mccsemi.com/pdf/Products/SMBJP6KE6.8(C)A-SMBJP6KE550(C)A(DO-214AA).pdf; ComponentLink2Description: DigiKey Link; ComponentLink2URL: http://digikey.com/product-detail/en/micro-commercial-co/SMBJP6KE91A-TP/SMBJP6KE91A-TPMSCT-ND/2345778; LastUpdated: 9/2/2020 1:19:48 AM; Lifecycle Status: Active; Minimum Order: 1; Mounting Type: Surface Mount; Operating Temperature: -55°C ~ 175°C (TJ); Package / Case: DO-214AA, SMB; Packaging: TapeAndReel; PartId: 11014; Part Status: Active; Price: 0.11; Series: SMBJ; Supplier 1: DigiKey; Supplier Part Number 1: SMBJP6KE91A-TPMSCT-ND; Supplier Device Package: DO-214AA (SMBJ); Voltage - Clamping (Max) @ Ipp: 125V; Voltage - Reverse Standoff (Typ): 77.8V
footprint DO214AA SMB
pins: 1, 2

## SMBJP6KE91CA-TP
designator D?
TVS DIODE 77.8V 125V DO214AA; Manufacturer: Micro Commercial Co; Bidirectional Channels: 1; Current - Peak Pulse (10/1000µs): 4.9A; Power Line Protection: No; Power - Peak Pulse: 600W; Type: Zener; Voltage - Breakdown (Min): 86.5V; Part Number: SMBJP6KE91CA-TP; Applications: General Purpose; ComponentLink1Description: Datasheet; ComponentLink1URL: https://www.mccsemi.com/pdf/Products/SMBJP6KE6.8(C)A-SMBJP6KE550(C)A(DO-214AA).pdf; ComponentLink2Description: DigiKey Link; ComponentLink2URL: http://digikey.com/product-detail/en/micro-commercial-co/SMBJP6KE91CA-TP/SMBJP6KE91CA-TPMSCT-ND/2345779; LastUpdated: 9/2/2020 1:28:15 AM; Lifecycle Status: Active; Minimum Order: 1; Mounting Type: Surface Mount; Operating Temperature: -55°C ~ 175°C (TJ); Package / Case: DO-214AA, SMB; Packaging: TapeAndReel; PartId: 8842; Part Status: Active; Price: 0.11; Series: SMBJ; Supplier 1: DigiKey; Supplier Part Number 1: SMBJP6KE91CA-TPMSCT-ND; Supplier Device Package: DO-214AA (SMBJ); Voltage - Clamping (Max) @ Ipp: 125V; Voltage - Reverse Standoff (Typ): 77.8V
footprint DO214AA SMB
pins: 1, 2

## SMBJP6KE100A-TP
designator D?
TVS DIODE 85.5V 137V DO214AA; Manufacturer: Micro Commercial Co; Current - Peak Pulse (10/1000µs): 4.5A; Power Line Protection: No; Power - Peak Pulse: 600W; Type: Zener; Unidirectional Channels: 1; Voltage - Breakdown (Min): 95V; Part Number: SMBJP6KE100A-TP; Applications: General Purpose; ComponentLink1Description: Datasheet; ComponentLink1URL: https://www.mccsemi.com/pdf/Products/SMBJP6KE6.8(C)A-SMBJP6KE550(C)A(DO-214AA).pdf; ComponentLink2Description: DigiKey Link; ComponentLink2URL: http://digikey.com/product-detail/en/micro-commercial-co/SMBJP6KE100A-TP/SMBJP6KE100A-TPMSCT-ND/2345708; LastUpdated: 9/2/2020 1:19:43 AM; Lifecycle Status: Active; Minimum Order: 1; Mounting Type: Surface Mount; Operating Temperature: -55°C ~ 175°C (TJ); Package / Case: DO-214AA, SMB; Packaging: TapeAndReel; PartId: 10553; Part Status: Active; Price: 0.11; Series: SMBJ; Supplier 1: DigiKey; Supplier Part Number 1: SMBJP6KE100A-TPMSCT-ND; Supplier Device Package: DO-214AA (SMBJ); Voltage - Clamping (Max) @ Ipp: 137V; Voltage - Reverse Standoff (Typ): 85.5V
footprint DO214AA SMB
pins: 1, 2

## SMBJP6KE100CA-TP
designator D?
TVS DIODE 85.5V 137V DO214AA; Manufacturer: Micro Commercial Co; Bidirectional Channels: 1; Current - Peak Pulse (10/1000µs): 4.5A; Power Line Protection: No; Power - Peak Pulse: 600W; Type: Zener; Voltage - Breakdown (Min): 95V; Part Number: SMBJP6KE100CA-TP; Applications: General Purpose; ComponentLink1Description: Datasheet; ComponentLink1URL: https://www.mccsemi.com/pdf/Products/SMBJP6KE6.8(C)A-SMBJP6KE550(C)A(DO-214AA).pdf; ComponentLink2Description: DigiKey Link; ComponentLink2URL: http://digikey.com/product-detail/en/micro-commercial-co/SMBJP6KE100CA-TP/SMBJP6KE100CA-TPMSCT-ND/2345709; LastUpdated: 9/2/2020 1:28:16 AM; Lifecycle Status: Active; Minimum Order: 1; Mounting Type: Surface Mount; Operating Temperature: -55°C ~ 175°C (TJ); Package / Case: DO-214AA, SMB; Packaging: TapeAndReel; PartId: 8975; Part Status: Active; Price: 0.11; Series: SMBJ; Supplier 1: DigiKey; Supplier Part Number 1: SMBJP6KE100CA-TPMSCT-ND; Supplier Device Package: DO-214AA (SMBJ); Voltage - Clamping (Max) @ Ipp: 137V; Voltage - Reverse Standoff (Typ): 85.5V
footprint DO214AA SMB
pins: 1, 2

## SMBJP6KE120A-TP
designator D?
600WTVSSMB; Manufacturer: Micro Commercial Co; Current - Peak Pulse (10/1000µs): 3.7A; Power Line Protection: No; Power - Peak Pulse: 600W; Type: Zener; Unidirectional Channels: 1; Voltage - Breakdown (Min): 114V; Voltage - Clamping (Max) @ Ipp: 165V; Voltage - Reverse Standoff (Typ): 102V; Part Number: SMBJP6KE120A-TP; Applications: General Purpose; ComponentLink1Description: Datasheet; ComponentLink1URL: https://www.mccsemi.com/pdf/Products/SMBJP6KE6.8(C)A-SMBJP6KE550(C)A(DO-214AA)-V2.pdf; ComponentLink2Description: DigiKey Link; ComponentLink2URL: http://digikey.com/product-detail/en/micro-commercial-co/SMBJP6KE120A-TP/SMBJP6KE120A-TPMSCT-ND/10054422; LastUpdated: 9/2/2020 1:19:48 AM; Lifecycle Status: Active; Minimum Order: 1; Mounting Type: Surface Mount; Operating Temperature: -65°C ~ 150°C (TJ); Package / Case: DO-214AA, SMB; Packaging: TapeAndReel; PartId: 11005; Part Status: Active; Price: 0.11; Series: -; Supplier 1: DigiKey; Supplier Part Number 1: SMBJP6KE120A-TPMSCT-ND; Supplier Device Package: DO-214AA (SMB)
footprint DO214AA SMB
pins: 1, 2

## SMBJP6KE130CA-TP
designator D?
TVS DIODE 111V 179V DO214AA; Manufacturer: Micro Commercial Co; Bidirectional Channels: 1; Current - Peak Pulse (10/1000µs): 3.4A; Power Line Protection: No; Power - Peak Pulse: 600W; Type: Zener; Voltage - Breakdown (Min): 124V; Part Number: SMBJP6KE130CA-TP; Applications: General Purpose; ComponentLink1Description: Datasheet; ComponentLink1URL: https://www.mccsemi.com/pdf/Products/SMBJP6KE6.8(C)A-SMBJP6KE550(C)A(DO-214AA).pdf; ComponentLink2Description: DigiKey Link; ComponentLink2URL: http://digikey.com/product-detail/en/micro-commercial-co/SMBJP6KE130CA-TP/SMBJP6KE130CA-TPMSCT-ND/2345716; LastUpdated: 9/2/2020 1:28:15 AM; Lifecycle Status: Active; Minimum Order: 1; Mounting Type: Surface Mount; Operating Temperature: -55°C ~ 175°C (TJ); Package / Case: DO-214AA, SMB; Packaging: TapeAndReel; PartId: 8848; Part Status: Active; Price: 0.11; Series: SMBJ; Supplier 1: DigiKey; Supplier Part Number 1: SMBJP6KE130CA-TPMSCT-ND; Supplier Device Package: DO-214AA (SMBJ); Voltage - Clamping (Max) @ Ipp: 179V; Voltage - Reverse Standoff (Typ): 111V
footprint DO214AA SMB
pins: 1, 2

## SMBJP6KE150A-TP
designator D?
TVS DIODE 128V 207V DO214AA; Manufacturer: Micro Commercial Co; Current - Peak Pulse (10/1000µs): 2.9A; Power Line Protection: No; Power - Peak Pulse: 600W; Type: Zener; Unidirectional Channels: 1; Voltage - Breakdown (Min): 143V; Part Number: SMBJP6KE150A-TP; Applications: General Purpose; ComponentLink1Description: Datasheet; ComponentLink1URL: https://www.mccsemi.com/pdf/Products/SMBJP6KE6.8(C)A-SMBJP6KE550(C)A(DO-214AA).pdf; ComponentLink2Description: DigiKey Link; ComponentLink2URL: http://digikey.com/product-detail/en/micro-commercial-co/SMBJP6KE150A-TP/SMBJP6KE150A-TPMSCT-ND/5418807; LastUpdated: 9/2/2020 1:19:44 AM; Lifecycle Status: Active; Minimum Order: 1; Mounting Type: Surface Mount; Operating Temperature: -55°C ~ 175°C (TJ); Package / Case: DO-214AA, SMB; Packaging: TapeAndReel; PartId: 10686; Part Status: Active; Price: 0.11; Series: SMBJ; Supplier 1: DigiKey; Supplier Part Number 1: SMBJP6KE150A-TPMSCT-ND; Supplier Device Package: DO-214AA (SMBJ); Voltage - Clamping (Max) @ Ipp: 207V; Voltage - Reverse Standoff (Typ): 128V
footprint DO214AA SMB
pins: 1, 2

## SMBJP6KE150CA-TP
designator D?
TVS DIODE 128V 207V DO214AA; Manufacturer: Micro Commercial Co; Bidirectional Channels: 1; Current - Peak Pulse (10/1000µs): 2.9A; Power Line Protection: No; Power - Peak Pulse: 600W; Type: Zener; Voltage - Breakdown (Min): 143V; Part Number: SMBJP6KE150CA-TP; Applications: General Purpose; ComponentLink1Description: Datasheet; ComponentLink1URL: https://www.mccsemi.com/pdf/Products/SMBJP6KE6.8(C)A-SMBJP6KE550(C)A(DO-214AA).pdf; ComponentLink2Description: DigiKey Link; ComponentLink2URL: http://digikey.com/product-detail/en/micro-commercial-co/SMBJP6KE150CA-TP/SMBJP6KE150CA-TPMSCT-ND/2345719; LastUpdated: 9/2/2020 1:28:22 AM; Lifecycle Status: Active; Minimum Order: 1; Mounting Type: Surface Mount; Operating Temperature: -55°C ~ 175°C (TJ); Package / Case: DO-214AA, SMB; Packaging: TapeAndReel; PartId: 9622; Part Status: Active; Price: 0.11; Series: SMBJ; Supplier 1: DigiKey; Supplier Part Number 1: SMBJP6KE150CA-TPMSCT-ND; Supplier Device Package: DO-214AA (SMBJ); Voltage - Clamping (Max) @ Ipp: 207V; Voltage - Reverse Standoff (Typ): 128V
footprint DO214AA SMB
pins: 1, 2

## SMBJP6KE170A-TP
designator D?
600WTVSSMB; Manufacturer: Micro Commercial Co; Current - Peak Pulse (10/1000µs): 2.6A; Power Line Protection: No; Power - Peak Pulse: 600W; Type: Zener; Unidirectional Channels: 1; Voltage - Breakdown (Min): 162V; Voltage - Clamping (Max) @ Ipp: 234V; Voltage - Reverse Standoff (Typ): 145V; Part Number: SMBJP6KE170A-TP; Applications: General Purpose; ComponentLink1Description: Datasheet; ComponentLink1URL: https://www.mccsemi.com/pdf/Products/SMBJP6KE6.8(C)A-SMBJP6KE550(C)A(DO-214AA)-V2.pdf; ComponentLink2Description: DigiKey Link; ComponentLink2URL: http://digikey.com/product-detail/en/micro-commercial-co/SMBJP6KE170A-TP/SMBJP6KE170A-TPMSCT-ND/10054423; LastUpdated: 9/2/2020 1:19:48 AM; Lifecycle Status: Active; Minimum Order: 1; Mounting Type: Surface Mount; Operating Temperature: -65°C ~ 150°C (TJ); Package / Case: DO-214AA, SMB; Packaging: TapeAndReel; PartId: 11006; Part Status: Active; Price: 0.11; Series: -; Supplier 1: DigiKey; Supplier Part Number 1: SMBJP6KE170A-TPMSCT-ND; Supplier Device Package: DO-214AA (SMB)
footprint DO214AA SMB
pins: 1, 2

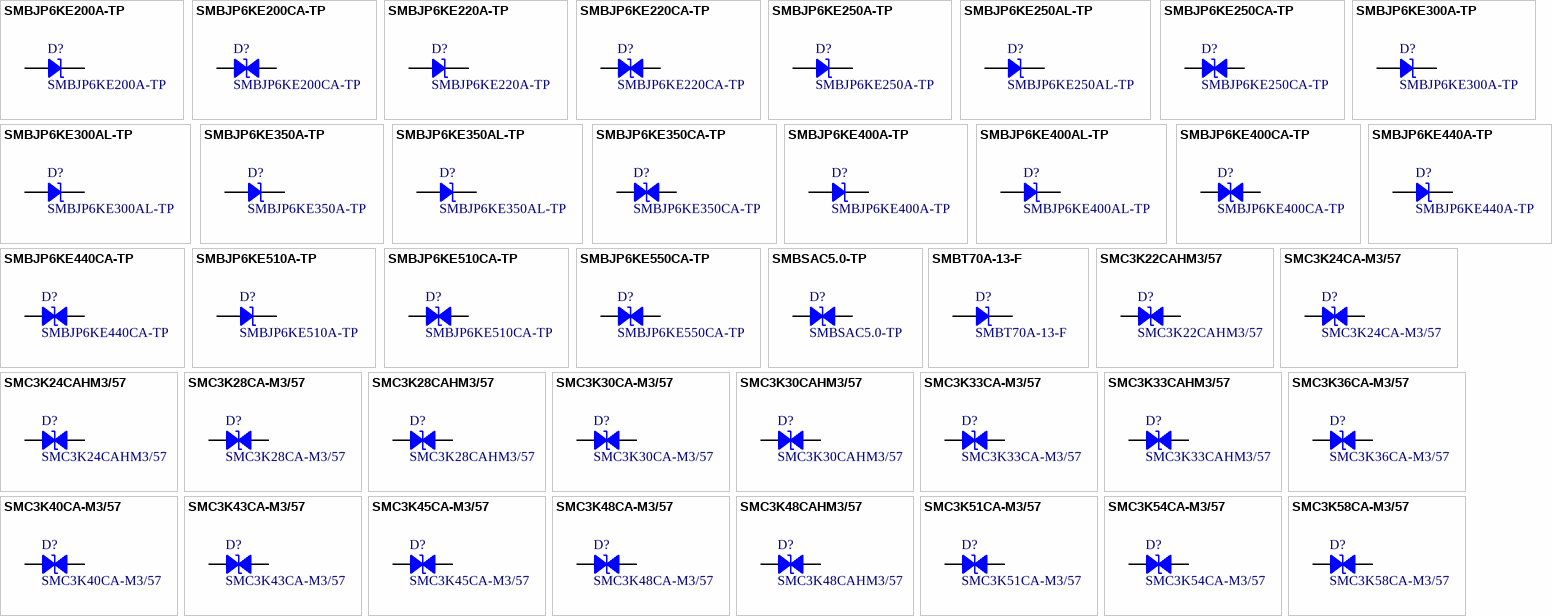
[diagram p92: symbols SMBJP6KE200A-TP to SMC3K58CA-M3/57]

## SMBJP6KE200A-TP
designator D?
TVS DIODE 171V 274V DO214AA; Manufacturer: Micro Commercial Co; Current - Peak Pulse (10/1000µs): 2.2A; Power Line Protection: No; Power - Peak Pulse: 600W; Type: Zener; Unidirectional Channels: 1; Voltage - Breakdown (Min): 190V; Part Number: SMBJP6KE200A-TP; Applications: General Purpose; ComponentLink1Description: Datasheet; ComponentLink1URL: https://www.mccsemi.com/pdf/Products/SMBJP6KE6.8(C)A-SMBJP6KE550(C)A(DO-214AA).pdf; ComponentLink2Description: DigiKey Link; ComponentLink2URL: http://digikey.com/product-detail/en/micro-commercial-co/SMBJP6KE200A-TP/SMBJP6KE200A-TPMSCT-ND/2345726; LastUpdated: 9/2/2020 1:19:48 AM; Lifecycle Status: Active; Minimum Order: 1; Mounting Type: Surface Mount; Operating Temperature: -55°C ~ 175°C (TJ); Package / Case: DO-214AA, SMB; Packaging: TapeAndReel; PartId: 10983; Part Status: Active; Price: 0.11; Series: SMBJ; Supplier 1: DigiKey; Supplier Part Number 1: SMBJP6KE200A-TPMSCT-ND; Supplier Device Package: DO-214AA (SMBJ); Voltage - Clamping (Max) @ Ipp: 274V; Voltage - Reverse Standoff (Typ): 171V
footprint DO214AA SMB
pins: 1, 2

## SMBJP6KE200CA-TP
designator D?
TVS DIODE 171V 274V DO214AA; Manufacturer: Micro Commercial Co; Bidirectional Channels: 1; Current - Peak Pulse (10/1000µs): 2.2A; Power Line Protection: No; Power - Peak Pulse: 600W; Type: Zener; Voltage - Breakdown (Min): 190V; Part Number: SMBJP6KE200CA-TP; Applications: General Purpose; ComponentLink1Description: Datasheet; ComponentLink1URL: https://www.mccsemi.com/pdf/Products/SMBJP6KE6.8(C)A-SMBJP6KE550(C)A(DO-214AA).pdf; ComponentLink2Description: DigiKey Link; ComponentLink2URL: http://digikey.com/product-detail/en/micro-commercial-co/SMBJP6KE200CA-TP/SMBJP6KE200CA-TPMSCT-ND/2345727; LastUpdated: 9/2/2020 1:28:22 AM; Lifecycle Status: Active; Minimum Order: 1; Mounting Type: Surface Mount; Operating Temperature: -55°C ~ 175°C (TJ); Package / Case: DO-214AA, SMB; Packaging: TapeAndReel; PartId: 9621; Part Status: Active; Price: 0.11; Series: SMBJ; Supplier 1: DigiKey; Supplier Part Number 1: SMBJP6KE200CA-TPMSCT-ND; Supplier Device Package: DO-214AA (SMBJ); Voltage - Clamping (Max) @ Ipp: 274V; Voltage - Reverse Standoff (Typ): 171V
footprint DO214AA SMB
pins: 1, 2